# EAGLE library part STM32F411_BOARD (library UNKNOWN-2024)
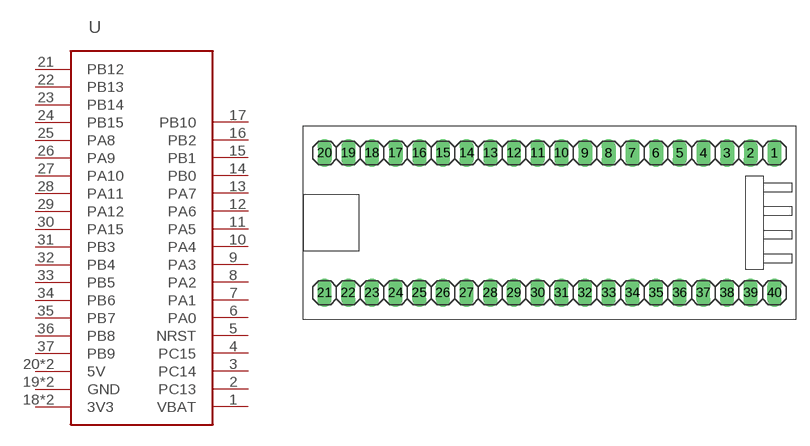
[diagram p15: symbol with the pads of STM32F411_BOARD; footprint STM32F411_BOARD]

Designator prefix -

## STM32F411_BOARD  [STM32F411_BOARD]
1  VBAT
2  PC13
3  PC14
4  PC15
5  NRST
6  PA0
7  PA1
8  PA2
9  PA3
10  PA4
11  PA5
12  PA6
13  PA7
14  PB0
15  PB1
16  PB2
17  PB10
18  3V3
19  GND
20  5V
21  PB12
22  PB13
23  PB14
24  PB15
25  PA8
26  PA9
27  PA10
28  PA11
29  PA12
30  PA15
31  PB3
32  PB4
33  PB5
34  PB6
35  PB7
36  PB8
37  PB9
38  5V
39  GND
40  3V3

## Footprint STM32F411_BOARD (pad centres in mm)
drill 1.016 long: 1 24.13,7.5; 2 21.59,7.5; 3 19.05,7.5; 4 16.51,7.5; 5 13.97,7.5; 6 11.43,7.5; 7 8.89,7.5; 8 6.35,7.5; 9 3.81,7.5; 10 1.27,7.5; 11 -1.27,7.5; 12 -3.81,7.5; 13 -6.35,7.5; 14 -8.89,7.5; 15 -11.43,7.5; 16 -13.97,7.5; 17 -16.51,7.5; 18 -19.05,7.5; 19 -21.59,7.5; 20 -24.13,7.5; 21 -24.13,-7.5; 22 -21.59,-7.5; 23 -19.05,-7.5; 24 -16.51,-7.5; 25 -13.97,-7.5; 26 -11.43,-7.5; 27 -8.89,-7.5; 28 -6.35,-7.5; 29 -3.81,-7.5; 30 -1.27,-7.5; 31 1.27,-7.5; 32 3.81,-7.5; 33 6.35,-7.5; 34 8.89,-7.5; 35 11.43,-7.5; 36 13.97,-7.5; 37 16.51,-7.5; 38 19.05,-7.5; 39 21.59,-7.5; 40 24.13,-7.5